# Altium footprint library EsoCore.PcbLib: 105 footprints (part 2 of 7)
Each footprint in its own frame and in the unit in brackets; x right, y up, seen from the top. Pads: shape width x height; smd on the part's side, far side on the other; paste and mask are expansions set on the pad; w line width, h text height; cw(c..) or ccw(c..) is an arc to the next point about the centre after c.
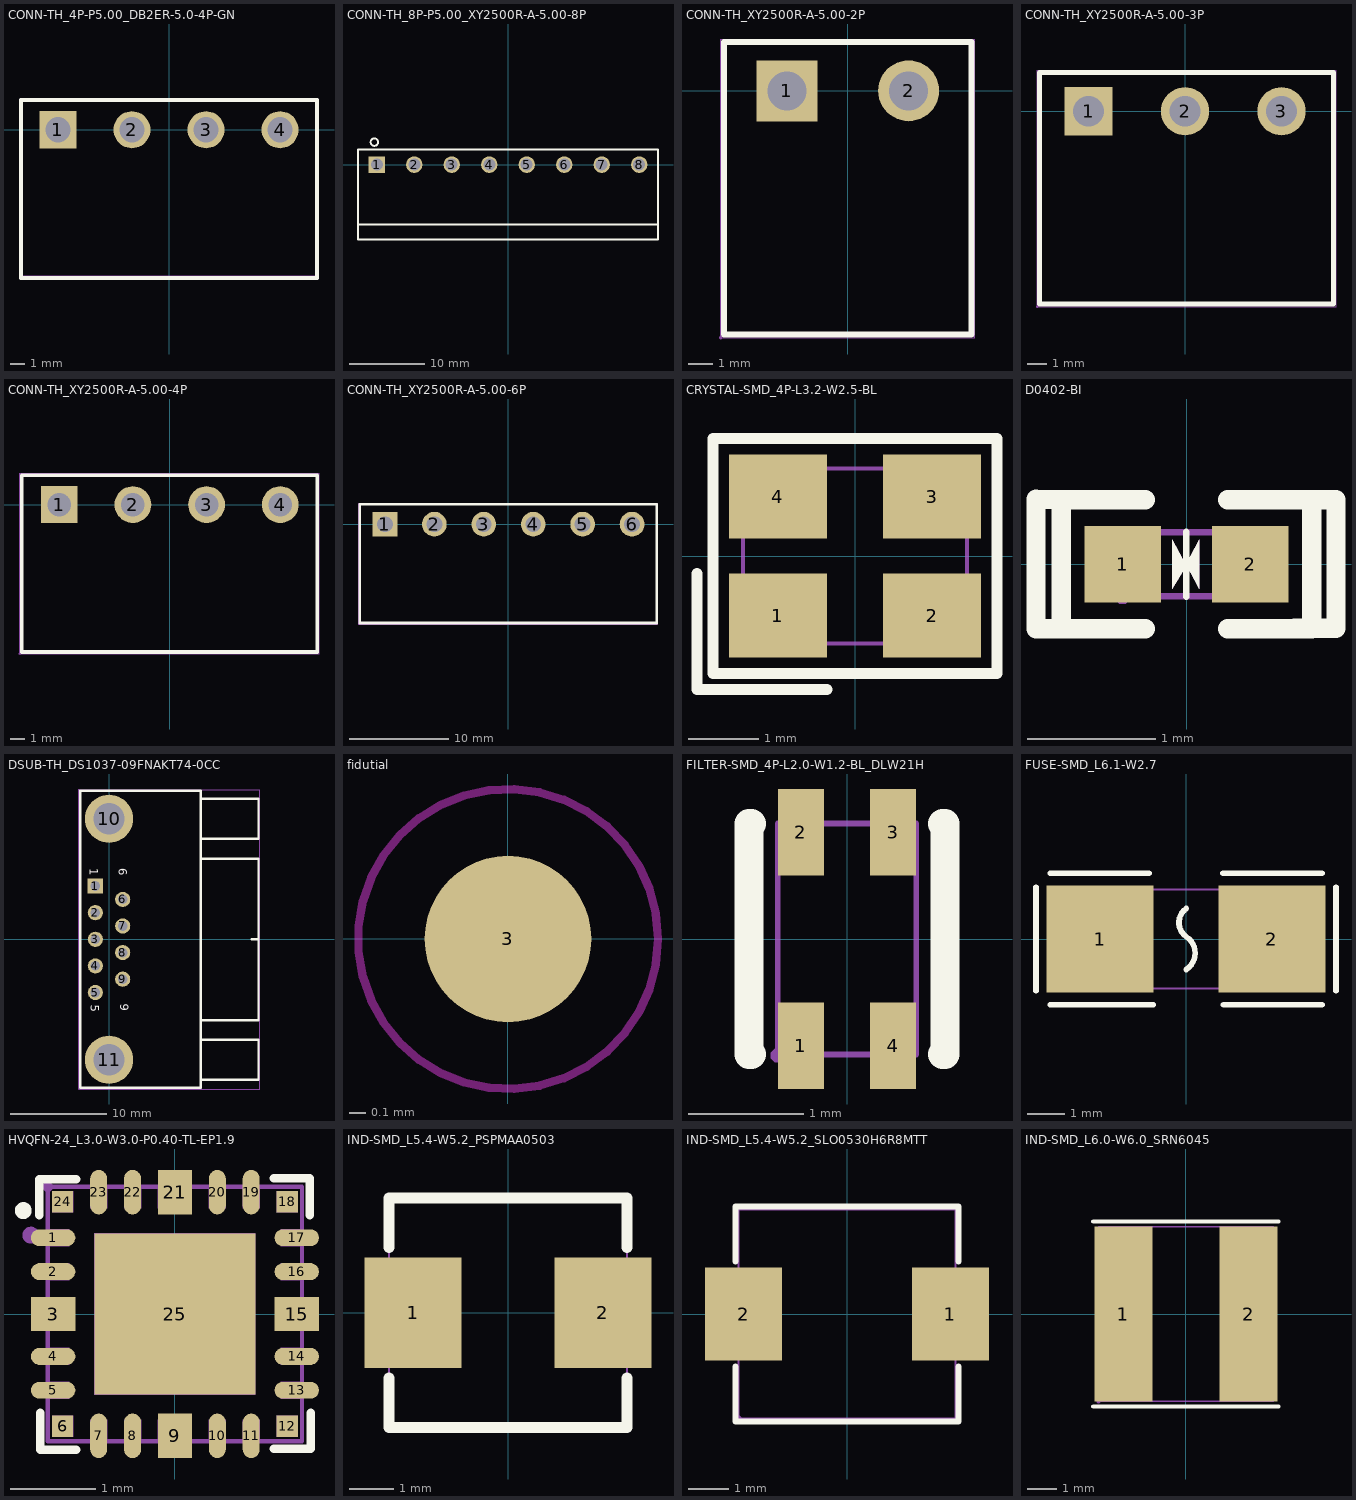
[diagram p1: the footprints below, top view; thin cyan lines are the x and y axes]

## CONN-TH_4P-P5.00_DB2ER-5.0-4P-GN [mm]
pads (4):
  rect 2.5x2.5 hole 1.7 paste-2539.97 mask+0.05: 1(-7.5,0)
  round 2.5 hole 1.7 paste-2539.97 mask+0.05: 2(-2.5,0) 3(2.5,0) 4(7.5,0)
Top Overlay:
  lines w0.254: -10,-10 -10,2 10,2 10,-10 -10,-10
Mechanical 15:
  region: -9.873,2 -9.873,-9.873 9.873,-9.873 9.873,2 9.873,2.053 9.947,2.127 10.053,2.127 10.127,2.053 10.127,2 10.127,-10 10.127,-10.025 10.108,-10.072 10.072,-10.108 10.025,-10.127 10,-10.127 -10,-10.127 -10.025,-10.127 -10.072,-10.108 -10.108,-10.072 -10.127,-10.025 -10.127,-10 -10.127,2 -10.127,2.053 -10.053,2.127 -9.947,2.127 -9.873,2.053 -9.873,2
3D body "CP4t.step": height 8.6, standoff -3.5, extent -10,-10.005 10,1.995

## CONN-TH_8P-P5.00_XY2500R-A-5.00-8P [mm]
pads (8):
  rect 2.2x2.2 hole 1.6 paste-2539.97 mask+0.051: 1(-17.5,0)
  round 2.2 hole 1.6 paste-2539.97 mask+0.051: 2(-12.5,0) 3(-7.5,0) 4(-2.5,0) 5(2.5,0) 6(7.5,0) 7(12.5,0) 8(17.5,0)
Top Overlay:
  circle w0.254: c-17.82,3 r0.5
  lines w0.254: -20,-8 20,-8 ; -20,-10 -20,2 20,2 20,-10 -20,-10
3D body "1X08P.step": height 8.4, standoff -3.5, extent -20,-10 20,2

## CONN-TH_XY2500R-A-5.00-2P [mm]
pads (2):
  rect 2.5x2.5 hole 1.6: 1(-2.5,0)
  round 2.5 hole 1.6: 2(2.5,0)
Top Overlay:
  lines w0.254: -5.08,-10 -5.08,2 5.08,2 5.08,-10 -5.08,-10
Mechanical 15:
  region: -5.147,-10.127 -5.147,-10.152 -5.182,-10.187 -5.232,-10.187 -5.267,-10.152 -5.267,-10.127 -5.267,-10.102 -5.232,-10.067 -5.182,-10.067 -5.147,-10.102 -5.147,-10.127
  region: 3.2,0 3.2,-0.092 3.152,-0.27 3.06,-0.43 2.93,-0.56 2.77,-0.652 2.592,-0.7 2.408,-0.7 2.23,-0.652 2.07,-0.56 1.94,-0.43 1.848,-0.27 1.8,-0.092 1.8,0 1.8,0.092 1.848,0.27 1.94,0.43 2.07,0.56 2.23,0.652 2.408,0.7 2.592,0.7 2.77,0.652 2.93,0.56 3.06,0.43 3.152,0.27 3.2,0.092 3.2,0
  region: -1.8,0 -1.8,-0.092 -1.848,-0.27 -1.94,-0.43 -2.07,-0.56 -2.23,-0.652 -2.408,-0.7 -2.592,-0.7 -2.77,-0.652 -2.93,-0.56 -3.06,-0.43 -3.152,-0.27 -3.2,-0.092 -3.2,0 -3.2,0.092 -3.152,0.27 -3.06,0.43 -2.93,0.56 -2.77,0.652 -2.592,0.7 -2.408,0.7 -2.23,0.652 -2.07,0.56 -1.94,0.43 -1.848,0.27 -1.8,0.092 -1.8,0
  lines w0.051: -5.207,-10.127 -5.207,2.127 5.207,2.127 5.207,-10.127 -5.207,-10.127
3D body "2PX.step": height 8.4, standoff -3.5, extent -5,-10 5,2

## CONN-TH_XY2500R-A-5.00-3P [mm]
pads (3):
  rect 2.5x2.5 hole 1.6: 1(-5,0)
  round 2.5 hole 1.6: 2(0,0) 3(5,0)
Top Overlay:
  lines w0.254: -7.54,-10 -7.54,2 7.7,2 7.7,-10 -7.54,-10
Mechanical 15:
  region: 5.7,0 5.7,-0.092 5.652,-0.27 5.56,-0.43 5.43,-0.56 5.27,-0.652 5.092,-0.7 4.908,-0.7 4.73,-0.652 4.57,-0.56 4.44,-0.43 4.348,-0.27 4.3,-0.092 4.3,0 4.3,0.092 4.348,0.27 4.44,0.43 4.57,0.56 4.73,0.652 4.908,0.7 5.092,0.7 5.27,0.652 5.43,0.56 5.56,0.43 5.652,0.27 5.7,0.092 5.7,0
  region: 0.7,0 0.7,-0.092 0.652,-0.27 0.56,-0.43 0.43,-0.56 0.27,-0.652 0.092,-0.7 -0.092,-0.7 -0.27,-0.652 -0.43,-0.56 -0.56,-0.43 -0.652,-0.27 -0.7,-0.092 -0.7,0 -0.7,0.092 -0.652,0.27 -0.56,0.43 -0.43,0.56 -0.27,0.652 -0.092,0.7 0.092,0.7 0.27,0.652 0.43,0.56 0.56,0.43 0.652,0.27 0.7,0.092 0.7,0
  region: -4.3,0 -4.3,-0.092 -4.348,-0.27 -4.44,-0.43 -4.57,-0.56 -4.73,-0.652 -4.908,-0.7 -5.092,-0.7 -5.27,-0.652 -5.43,-0.56 -5.56,-0.43 -5.652,-0.27 -5.7,-0.092 -5.7,0 -5.7,0.092 -5.652,0.27 -5.56,0.43 -5.43,0.56 -5.27,0.652 -5.092,0.7 -4.908,0.7 -4.73,0.652 -4.57,0.56 -4.44,0.43 -4.348,0.27 -4.3,0.092 -4.3,0
  region: -7.607,-10.127 -7.607,-10.152 -7.642,-10.187 -7.692,-10.187 -7.727,-10.152 -7.727,-10.127 -7.727,-10.102 -7.692,-10.067 -7.642,-10.067 -7.607,-10.102 -7.607,-10.127
  lines w0.051: -7.667,-10.127 7.827,-10.127 7.827,2.127 -7.667,2.127 -7.667,-10.127
3D body "3PX.step": height 8.4, standoff -3.5, extent -7.5,-10 7.5,2

## CONN-TH_XY2500R-A-5.00-4P [mm]
pads (4):
  rect 2.5x2.5 hole 1.6: 1(-7.5,0)
  round 2.5 hole 1.6: 2(-2.5,0) 3(2.5,0) 4(7.5,0)
Top Overlay:
  lines w0.254: -10.04,-10 -10.04,2 ; -10,-10 10,-10 10,2 -10,2
Mechanical 15:
  region: -10.107,-10.127 -10.107,-10.152 -10.142,-10.187 -10.192,-10.187 -10.227,-10.152 -10.227,-10.127 -10.227,-10.102 -10.192,-10.067 -10.142,-10.067 -10.107,-10.102 -10.107,-10.127
  region: 8.2,0 8.2,-0.092 8.152,-0.27 8.06,-0.43 7.93,-0.56 7.77,-0.652 7.592,-0.7 7.408,-0.7 7.23,-0.652 7.07,-0.56 6.94,-0.43 6.848,-0.27 6.8,-0.092 6.8,0 6.8,0.092 6.848,0.27 6.94,0.43 7.07,0.56 7.23,0.652 7.408,0.7 7.592,0.7 7.77,0.652 7.93,0.56 8.06,0.43 8.152,0.27 8.2,0.092 8.2,0
  region: 3.2,0 3.2,-0.092 3.152,-0.27 3.06,-0.43 2.93,-0.56 2.77,-0.652 2.592,-0.7 2.408,-0.7 2.23,-0.652 2.07,-0.56 1.94,-0.43 1.848,-0.27 1.8,-0.092 1.8,0 1.8,0.092 1.848,0.27 1.94,0.43 2.07,0.56 2.23,0.652 2.408,0.7 2.592,0.7 2.77,0.652 2.93,0.56 3.06,0.43 3.152,0.27 3.2,0.092 3.2,0
  region: -1.8,0 -1.8,-0.092 -1.848,-0.27 -1.94,-0.43 -2.07,-0.56 -2.23,-0.652 -2.408,-0.7 -2.592,-0.7 -2.77,-0.652 -2.93,-0.56 -3.06,-0.43 -3.152,-0.27 -3.2,-0.092 -3.2,0 -3.2,0.092 -3.152,0.27 -3.06,0.43 -2.93,0.56 -2.77,0.652 -2.592,0.7 -2.408,0.7 -2.23,0.652 -2.07,0.56 -1.94,0.43 -1.848,0.27 -1.8,0.092 -1.8,0
  region: -6.8,0 -6.8,-0.092 -6.848,-0.27 -6.94,-0.43 -7.07,-0.56 -7.23,-0.652 -7.408,-0.7 -7.592,-0.7 -7.77,-0.652 -7.93,-0.56 -8.06,-0.43 -8.152,-0.27 -8.2,-0.092 -8.2,0 -8.2,0.092 -8.152,0.27 -8.06,0.43 -7.93,0.56 -7.77,0.652 -7.592,0.7 -7.408,0.7 -7.23,0.652 -7.07,0.56 -6.94,0.43 -6.848,0.27 -6.8,0.092 -6.8,0
  lines w0.051: -10.167,-10.127 -10.167,2.127 10.127,2.127 10.127,-10.127 -10.167,-10.127
3D body "4PX.step": height 8.4, standoff -3.5, extent -10,-10 10,2

## CONN-TH_XY2500R-A-5.00-6P [mm]
pads (6):
  rect 2.5x2.5 hole 1.6: 1(-12.5,0)
  round 2.5 hole 1.6: 2(-7.5,0) 3(-2.5,0) 4(2.5,0) 5(7.5,0) 6(12.5,0)
Top Overlay:
  lines w0.254: -15.04,-10 -15.04,2 ; -15,-10 15,-10 15,2 -15,2
Mechanical 15:
  drawing of 11 lines, arcs and shapes, not listed
3D body "6PINX.step": height 8.4, standoff -3.5, extent -15,-10 15,2

## CRYSTAL-SMD_4P-L3.2-W2.5-BL [mm]
pads (4):
  rect 1.4x1.2 smd: 1(-1.1,-0.85) 2(1.1,-0.85) 3(1.1,0.85) 4(-1.1,0.85)
Top Overlay:
  lines w0.152: -2.257,-0.25 -2.257,-1.907 -0.4,-1.907 ; -2.029,-1.678 2.029,-1.678 2.029,1.679 -2.029,1.679 -2.029,-1.678
Mechanical 6:
  circle w0.254: c-1.27,-0.889 r0.127
Mechanical 15:
  region: -1.5,-0.35 -0.6,-0.35 -0.6,-1.15 -1.5,-1.15
  region: 0.6,-0.35 1.5,-0.35 1.5,-1.15 0.6,-1.15
  region: 0.6,1.15 1.5,1.15 1.5,0.35 0.6,0.35
  region: -1.5,1.15 -0.6,1.15 -0.6,0.35 -1.5,0.35
  region: -1.66,-1.25 -1.66,-1.225 -1.625,-1.19 -1.575,-1.19 -1.54,-1.225 -1.54,-1.25 -1.54,-1.275 -1.575,-1.31 -1.625,-1.31 -1.66,-1.275 -1.66,-1.25
  lines w0.051: -1.6,-1.25 1.6,-1.25 1.6,1.25 -1.6,1.25 -1.6,-1.25
3D body "8MHZX.step": height 0.7, standoff 0, extent -1.6,-1.25 1.6,1.25

## D0402-BI [mm]
pads (2):
  rect 0.6x0.6 smd paste-100 mask+0.051: 1(-0.5,0) 2(0.5,0)
Top Overlay:
  region: 0,0 0.1,0.19 0.1,-0.19
  region: 0,-0.01 -0.11,-0.19 -0.11,-0.01 -0.11,0.19
  lines w0.051: 0,-0.254 0,0.254
  lines w0.152: -1.17,-0.504 -0.981,-0.504 ; -0.975,-0.504 -1.178,-0.504 -1.178,0.508 -0.981,0.504 ; -0.324,0.504 -0.981,0.504 ; 0.324,-0.504 0.981,-0.504 0.981,0.504 ; 0.324,0.504 0.981,0.504 ; 0.847,-0.5 1.17,-0.5 1.17,0.504 0.981,0.504 ; -0.981,-0.504 -0.981,0.504 ; -0.981,-0.504 -0.324,-0.504 -0.981,-0.504 ; -0.981,-0.504 -0.981,0.504
Top Paste:
  region: 0.78,0.225 0.78,-0.225 0.73,-0.275 0.25,-0.275 0.18,-0.225 0.18,0.225 0.25,0.275 0.73,0.275
  region: -0.18,0.225 -0.18,-0.225 -0.25,-0.275 -0.73,-0.275 -0.78,-0.225 -0.78,0.225 -0.73,0.275 -0.25,0.275
Mechanical 6:
  region: 0,0 0.1,0.19 0.1,-0.19
  region: 0,-0.01 -0.11,-0.19 -0.11,-0.01 -0.11,0.19
Mechanical 15:
  region: -0.5,-0.19 -0.475,-0.19 -0.44,-0.225 -0.44,-0.275 -0.475,-0.31 -0.5,-0.31 -0.525,-0.31 -0.56,-0.275 -0.56,-0.225 -0.525,-0.19 -0.5,-0.19
  region: 0.25,0.25 0.5,0.25 0.5,-0.25 0.25,-0.25
  region: -0.25,-0.25 -0.5,-0.25 -0.5,0.25 -0.25,0.25
  lines w0.051: -0.5,-0.25 0.5,-0.25 0.5,0.25 -0.5,0.25 -0.5,-0.25
3D body "TVS.step": height 0.35, standoff 0, extent -0.5,-0.25 0.5,0.25

## DSUB-TH_DS1037-09FNAKT74-0CC [mm]
pads (11):
  rect 1.575x1.575 hole 1: 1(-1.42,5.52)
  round 1.575 hole 1: 2(-1.42,2.76) 3(-1.42,0) 4(-1.42,-2.76) 5(-1.42,-5.52) 6(1.42,4.14) 7(1.42,1.38) 8(1.42,-1.38) 9(1.42,-4.14)
  round 5 hole 3.25: 10(0,12.5) 11(0,-12.5)
Top Overlay:
  lines w0.254: 9.5,-14.57 15.5,-14.57 ; 9.5,-10.43 15.5,-10.43 15.5,-14.54 ; 9.5,-8.38 15.5,-8.38 15.5,8.37 9.5,8.37 ; 9.5,10.43 15.5,10.43 ; 9.5,14.57 15.5,14.57 15.5,10.46 ; 14.78,-0.005 15.48,-0.005 ; -3,-15.4 -3,15.4 9.5,15.4 9.5,-15.4 -3,-15.4
  text "6" at 1.018,7.374 h0.89
  text "9" at 1.171,-6.698 h0.89
  text "5" at -1.877,-6.799 h0.89
  text "1" at -1.979,7.349 h0.89
Mechanical 15:
  drawing of 16 lines, arcs and shapes, not listed
3D body "VGAX.step": height 12.31, standoff -3.5, extent -2.75,-15.45 15.75,15.45

## fidutial [mm]
pads (1):
  round 1 smd mask+0.5: 3(0,0)
Keep-Out Layer:
  circle w0.05: c0,0 r0.9

## FILTER-SMD_4P-L2.0-W1.2-BL_DLW21H [mm]
pads (4):
  rect 0.4x0.75 smd: 1(-0.4,-0.925) 2(-0.4,0.925) 3(0.4,0.925) 4(0.4,-0.925)
Top Overlay:
  lines w0.254: -0.831,-1 -0.85,-1 -0.85,1 -0.831,1 ; 0.831,-1 0.85,-1 0.85,1 0.831,1
Mechanical 15:
  region: -0.2,-0.56 -0.2,-1.01 -0.6,-1.01 -0.6,-0.56
  region: 0.6,-0.56 0.6,-1.01 0.2,-1.01 0.2,-0.56
  region: 0.6,1.01 0.6,0.56 0.2,0.56 0.2,1.01
  region: -0.2,1.01 -0.2,0.56 -0.6,0.56 -0.6,1.01
  region: -0.54,-1.01 -0.54,-1.035 -0.575,-1.07 -0.625,-1.07 -0.66,-1.035 -0.66,-1.01 -0.66,-0.985 -0.625,-0.95 -0.575,-0.95 -0.54,-0.985 -0.54,-1.01
  lines w0.051: -0.6,-1 -0.6,1 0.6,1 0.6,-1 -0.6,-1
3D body "CHOKEX.step": height 1.2, standoff 0, extent -0.6,-1.01 0.6,1.01

## FUSE-SMD_L6.1-W2.7 [mm]
pads (2):
  rect 2.91x2.905 smd paste-100 mask+0.051: 1(-2.33,0) 2(2.33,0)
Top Overlay:
  lines w0.152: -4.064,-1.397 -4.064,1.397 ; -3.683,-1.778 -0.889,-1.778 ; -3.683,1.778 -1.002,1.778 ; 0.006,-0.826 ccw(c-0.281,-0.381) 0.006,0.064 cw(c0.277,0.445) 0.006,0.825 ; 1.001,1.778 3.683,1.778 ; 1.016,-1.778 3.683,-1.778 ; 4.064,-1.397 4.064,1.397
Top Paste:
  region: 0.875,-1.353 0.875,-0.594 0.975,-0.494 1.764,-0.494 1.864,-0.394 1.864,0.394 1.764,0.494 0.975,0.494 0.875,0.594 0.875,1.353 0.975,1.453 3.685,1.453 3.785,1.353 3.785,-1.353 3.685,-1.453 0.975,-1.453
  region: -0.875,-1.353 -0.875,-0.594 -0.975,-0.494 -1.764,-0.494 -1.864,-0.394 -1.864,0.394 -1.764,0.494 -0.975,0.494 -0.875,0.594 -0.875,1.353 -0.975,1.453 -3.685,1.453 -3.785,1.353 -3.785,-1.353 -3.685,-1.453 -0.975,-1.453
Mechanical 15:
  region: -2.99,-1.345 -2.99,-1.37 -3.025,-1.405 -3.075,-1.405 -3.11,-1.37 -3.11,-1.345 -3.11,-1.32 -3.075,-1.285 -3.025,-1.285 -2.99,-1.32 -2.99,-1.345
  region: -3.05,-1.345 -3.05,1.345 -1.6,1.345 -1.6,-1.345
  region: 3.05,-1.345 3.05,1.345 1.6,1.345 1.6,-1.345
  lines w0.051: -3.05,-1.345 -3.05,1.345 3.05,1.345 3.05,-1.345 -3.05,-1.345
3D body "fuse.step": height 2.7, standoff 0, extent -3.05,-1.35 3.05,1.35

## HVQFN-24_L3.0-W3.0-P0.40-TL-EP1.9 [mm]
pads (25):
  oval 0.525x0.2 smd paste-100 mask+0.051: 1(-1.437,0.9) 2(-1.437,0.5) 4(-1.437,-0.5) 5(-1.437,-0.9) 13(1.437,-0.9) 14(1.437,-0.5) 16(1.437,0.5) 17(1.437,0.9)
  rect 0.525x0.4 smd paste-100 mask+0.051: 3(-1.437,0) 15(1.437,0)
  rect 0.25x0.25 smd paste-100 mask+0.051: 6(-1.325,-1.325) 12(1.325,-1.325) 18(1.325,1.325) 24(-1.325,1.325)
  oval 0.2x0.525 smd paste-100 mask+0.051: 7(-0.9,-1.437) 8(-0.5,-1.437) 10(0.5,-1.437) 11(0.9,-1.437) 19(0.9,1.437) 20(0.5,1.437) 22(-0.5,1.437) 23(-0.9,1.437)
  rect 0.4x0.525 smd paste-100 mask+0.051: 9(0,-1.437) 21(0,1.437)
  rect 1.9x1.9 smd paste-100 mask+0.051: 25(0,0)
Top Overlay:
  circle w0.1: c-1.79,1.22 r0.05
  lines w0.1: -1.6,1.166 -1.6,1.59 -1.166,1.59 ; -1.59,-1.166 -1.59,-1.6 -1.166,-1.6 ; 1.166,-1.59 1.6,-1.59 1.6,-1.166 ; 1.166,1.6 1.59,1.6 1.59,1.166
Top Paste:
  drawing of 25 lines, arcs and shapes, not listed
Mechanical 6:
  circle w0.1: c-1.7,0.93 r0.05
Mechanical 15:
  region: -0.95,0.95 0.95,0.95 0.95,-0.95 -0.95,-0.95
  region: -1.45,1.45 -1.2,1.45 -1.2,1.2 -1.45,1.2
  region: -1.45,-1.45 -1.45,-1.2 -1.2,-1.2 -1.2,-1.45
  region: 1.45,-1.45 1.2,-1.45 1.2,-1.2 1.45,-1.2
  region: 1.45,1.45 1.45,1.2 1.2,1.2 1.2,1.45
  region: 1.5,1 1.5,0.8 1.25,0.8 1.25,1
  region: 1.25,0.2 1.5,0.2 1.5,-0.2 1.25,-0.2
  region: 1.5,0.6 1.5,0.4 1.25,0.4 1.25,0.6
  region: 1.5,-0.4 1.5,-0.6 1.25,-0.6 1.25,-0.4
  region: 1.5,-0.8 1.5,-1 1.25,-1 1.25,-0.8
  region: -1.5,-1 -1.5,-0.8 -1.25,-0.8 -1.25,-1
  region: -1.25,-0.2 -1.5,-0.2 -1.5,0.2 -1.25,0.2
  region: -1.5,-0.6 -1.5,-0.4 -1.25,-0.4 -1.25,-0.6
  region: -1.5,0.4 -1.5,0.6 -1.25,0.6 -1.25,0.4
  region: -1.5,0.8 -1.5,1 -1.25,1 -1.25,0.8
  region: 0.8,-1.5 1,-1.5 1,-1.25 0.8,-1.25
  region: 0.8,1.5 1,1.5 1,1.25 0.8,1.25
  region: 0.4,-1.5 0.6,-1.5 0.6,-1.25 0.4,-1.25
  region: 0.4,1.5 0.6,1.5 0.6,1.25 0.4,1.25
  region: -0.6,-1.5 -0.4,-1.5 -0.4,-1.25 -0.6,-1.25
  region: -0.6,1.5 -0.4,1.5 -0.4,1.25 -0.6,1.25
  region: -0.2,1.25 -0.2,1.5 0.2,1.5 0.2,1.25
  region: -0.2,-1.5 -0.2,-1.25 0.2,-1.25 0.2,-1.5
  region: -1,1.5 -0.8,1.5 -0.8,1.25 -1,1.25
  region: -1,-1.5 -0.8,-1.5 -0.8,-1.25 -1,-1.25
  region: -1.44,1.5 -1.44,1.475 -1.475,1.44 -1.525,1.44 -1.56,1.475 -1.56,1.5 -1.56,1.525 -1.525,1.56 -1.475,1.56 -1.44,1.525 -1.44,1.5
  lines w0.051: -1.5,-1.5 -1.5,1.5 1.5,1.5 1.5,-1.5 -1.5,-1.5
3D body "DP8323X.step": height 1, standoff 0, extent -1.51,-1.51 1.51,1.51

## IND-SMD_L5.4-W5.2_PSPMAA0503 [mm]
pads (2):
  rect 2.2x2.5 smd: 1(-2.15,0) 2(2.15,0)
Top Overlay:
  lines w0.254: -2.7,-1.481 -2.7,-2.6 2.7,-2.6 2.7,-1.481 ; -2.7,1.481 -2.7,2.6 2.7,2.6 2.7,1.481
Mechanical 15:
  region: -2.7,1.1 -1.5,1.1 -1.5,-1.1 -2.7,-1.1
  region: 1.5,1.1 2.7,1.1 2.7,-1.1 1.5,-1.1
  region: -2.64,-2.6 -2.64,-2.625 -2.675,-2.66 -2.725,-2.66 -2.76,-2.625 -2.76,-2.6 -2.76,-2.575 -2.725,-2.54 -2.675,-2.54 -2.64,-2.575 -2.64,-2.6
  lines w0.051: -2.7,-2.6 2.7,-2.6 2.7,2.6 -2.7,2.6 -2.7,-2.6
3D body "INDXX.step": height 3, standoff 0, extent -2.7,-2.6 2.7,2.6

## IND-SMD_L5.4-W5.2_SLO0530H6R8MTT [mm]
pads (2):
  rect 1.924x2.32 smd: 1(2.578,0) 2(-2.578,0)
Top Overlay:
  lines w0.152: -2.776,-1.312 -2.776,-2.676 2.776,-2.676 2.776,-1.312 ; -2.776,1.312 -2.776,2.676 2.776,2.676 2.776,1.312
Mechanical 15:
  region: -2.7,-2.66 -2.725,-2.66 -2.76,-2.625 -2.76,-2.575 -2.725,-2.54 -2.7,-2.54 -2.675,-2.54 -2.64,-2.575 -2.64,-2.625 -2.675,-2.66 -2.7,-2.66
  region: 2.7,-0.95 2.7,0.95 1.7,0.95 1.7,-0.95
  region: -2.7,-0.95 -2.7,0.95 -1.7,0.95 -1.7,-0.95
  lines w0.051: -2.7,-2.6 2.7,-2.6 2.7,2.6 -2.7,2.6 -2.7,-2.6
3D body "6.8HX.step": height 3.01, standoff 0, extent -2.7,-2.6 2.7,2.6

## IND-SMD_L6.0-W6.0_SRN6045 [mm]
pads (2):
  rect 2x6 smd: 1(-2.15,0) 2(2.15,0)
Top Overlay:
  lines w0.152: -3.178,-3.175 3.175,-3.175 ; -3.178,3.175 3.175,3.175
Mechanical 15:
  region: -3,3 -1.25,3 -1.25,-3 -3,-3
  region: 1.25,3 3,3 3,-3 1.25,-3
  region: -2.94,-3 -2.94,-3.025 -2.975,-3.06 -3.025,-3.06 -3.06,-3.025 -3.06,-3 -3.06,-2.975 -3.025,-2.94 -2.975,-2.94 -2.94,-2.975 -2.94,-3
  lines w0.051: -3,-3 3,-3 3,3 -3,3 -3,-3